# Altium footprint library PCB - CONNECTOR - AMPHENOL SHDR14W62P254.PCBLIB: 1 footprints
Each footprint in its own frame and in the unit in brackets; x right, y up, seen from the top. Pads: shape width x height; smd on the part's side, far side on the other; paste and mask are expansions set on the pad; w line width, h text height; cw(c..) or ccw(c..) is an arc to the next point about the centre after c.
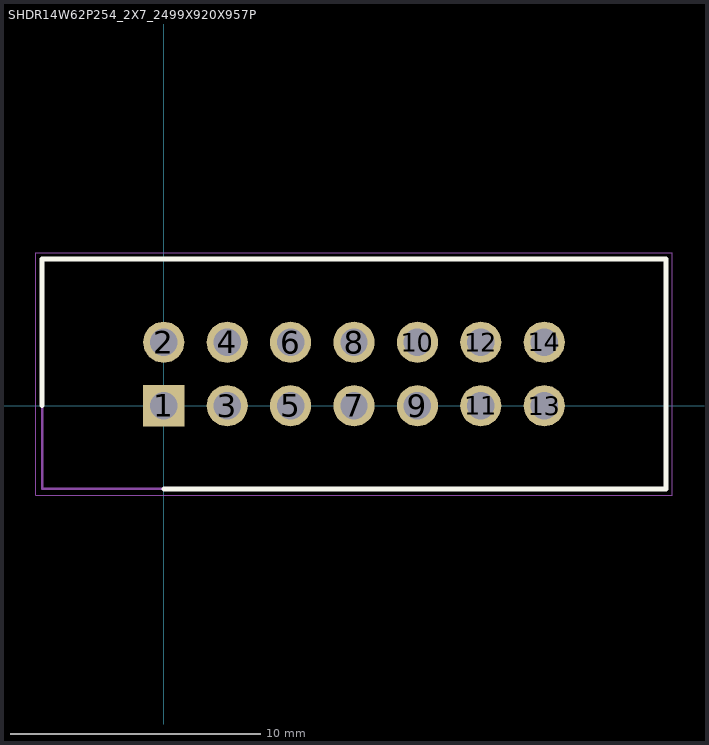
[diagram p0: the footprint, top view; thin cyan lines are the x and y axes]

## SHDR14W62P254_2X7_2499X920X957P [mm]
pads (14):
  rect 1.65x1.65 hole 1.1: 1(0,0)
  round 1.65 hole 1.1: 2(0,2.54) 3(2.54,0) 4(2.54,2.54) 5(5.08,0) 6(5.08,2.54) 7(7.62,0) 8(7.62,2.54) 9(10.16,0) 10(10.16,2.54) 11(12.7,0) 12(12.7,2.54) 13(15.24,0) 14(15.24,2.54)
Top Overlay:
  lines w0.2: -4.875,0 -4.875,5.87 20.115,5.87 20.115,-3.33 0,-3.33
Mechanical 13:
  lines w0.1: -4.875,-3.33 20.115,-3.33 20.115,5.87 -4.875,5.87 -4.875,-3.33
Mechanical 15:
  lines w0.05: -5.125,-3.58 20.365,-3.58 20.365,6.12 -5.125,6.12 -5.125,-3.58
3D body "75869-102LF.stp": height 9.57, standoff -3.25, extent -4.875,-3.33 20.115,5.87